# Altium footprint library DIODES_TO252.PcbLib: 1 footprints
Each footprint in its own frame and in the unit in brackets; x right, y up, seen from the top. Pads: shape width x height; smd on the part's side, far side on the other; paste and mask are expansions set on the pad; w line width, h text height; cw(c..) or ccw(c..) is an arc to the next point about the centre after c.
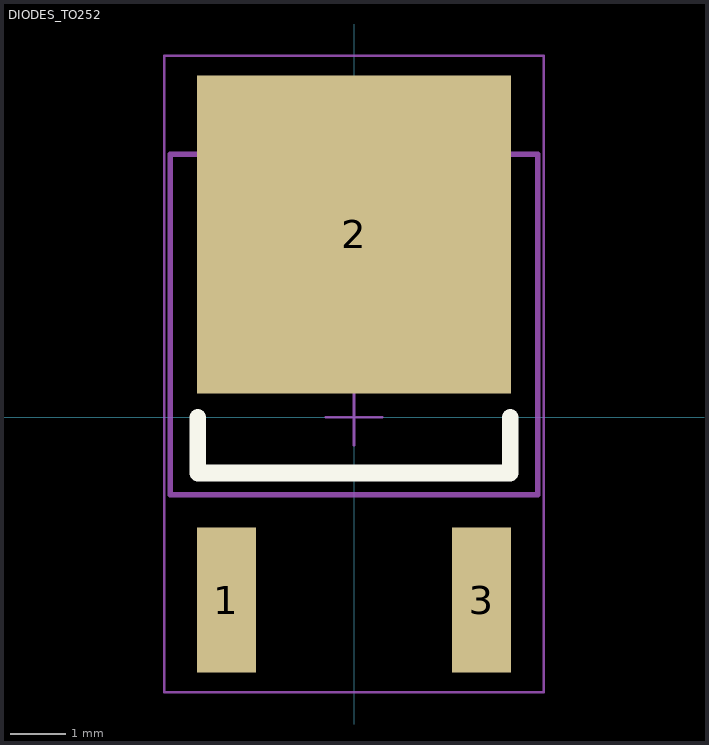
[diagram p0: the footprint, top view; thin cyan lines are the x and y axes]

## DIODES_TO252 [mm] "DIODES_TO252"
height 2.39
pads (3):
  rect 1.06x2.6 smd: 1(-2.286,-3.275) 3(2.286,-3.275)
  rect 5.632x5.7 smd: 2(0,3.275)
Top Overlay:
  lines w0.3: -2.8,0 -2.8,-1 2.8,-1 2.8,0
Top 3D Body:
  lines w0.1: -3.29,-1.39 -3.29,4.71 3.29,4.71 3.29,-1.39 -3.29,-1.39
Top Courtyard (Mech15):
  lines w0.05: -0.5,0 0.5,0 ; 0,-0.5 0,0.5 ; -3.4,-4.926 -3.4,6.476 3.4,6.476 3.4,-4.926 -3.4,-4.926
3D body "TO-252.stp": height 2.39, standoff 0, extent -3.356,-4.457 3.356,5.957